# Altium footprint library TI CC3000.PCBLIB: 1 footprints
Each footprint in its own frame and in the unit in brackets; x right, y up, seen from the top. Pads: shape width x height; smd on the part's side, far side on the other; paste and mask are expansions set on the pad; w line width, h text height; cw(c..) or ccw(c..) is an arc to the next point about the centre after c.
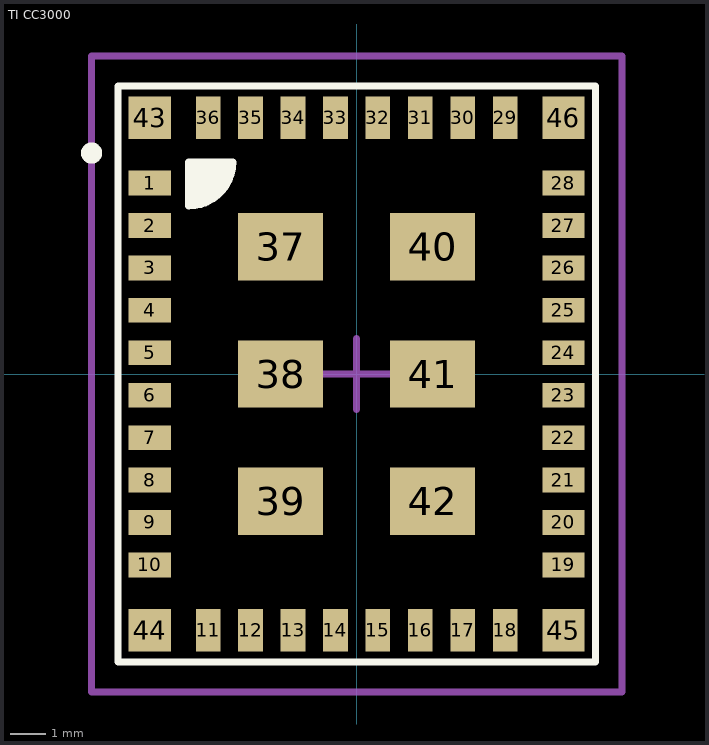
[diagram p0: the footprint, top view; thin cyan lines are the x and y axes]

## TI CC3000 [mm]
height 2.2
pads (46):
  rect 1.2x0.7 smd: 1(-5.85,5.4) 2(-5.85,4.2) 3(-5.85,3) 4(-5.85,1.8) 5(-5.85,0.6) 6(-5.85,-0.6) 7(-5.85,-1.8) 8(-5.85,-3) 9(-5.85,-4.2) 10(-5.85,-5.4) 19(5.85,-5.4) 20(5.85,-4.2) 21(5.85,-3) 22(5.85,-1.8) 23(5.85,-0.6) 24(5.85,0.6) 25(5.85,1.8) 26(5.85,3) 27(5.85,4.2) 28(5.85,5.4)
  rect 0.7x1.2 smd: 11(-4.2,-7.25) 12(-3,-7.25) 13(-1.8,-7.25) 14(-0.6,-7.25) 15(0.6,-7.25) 16(1.8,-7.25) 17(3,-7.25) 18(4.2,-7.25) 29(4.2,7.25) 30(3,7.25) 31(1.8,7.25) 32(0.6,7.25) 33(-0.6,7.25) 34(-1.8,7.25) 35(-3,7.25) 36(-4.2,7.25)
  rect 2.4x1.9 smd: 37(-2.15,3.6) 38(-2.15,0) 39(-2.15,-3.6) 40(2.15,3.6) 41(2.15,0) 42(2.15,-3.6)
  rect 1.2x1.2 smd: 43(-5.85,7.25) 44(-5.85,-7.25) 45(5.85,-7.25) 46(5.85,7.25)
Top Overlay:
  circle w0.3: c-7.5,6.25 r0.15
  region: -4.75,6 -4.75,4.75 -4.25,4.75 -3.5,5.5 -3.5,6
  lines w0.2: -6.75,-8.15 -6.75,8.15 6.75,8.15 6.75,-8.15 -6.75,-8.15 ; -4.75,4.75 ccw(c-4.75,6) -3.5,6 -4.75,6 -4.75,4.75
Mechanical 15:
  lines w0.2: -1,0 1,0 ; 0,-1 0,1 ; -7.5,-9 7.5,-9 7.5,9 -7.5,9 -7.5,-9
3D body "TI CC3000MOD.STEP": height 2.1, standoff 0, extent -6.75,-8.15 6.75,8.15